# Altium schematic symbol library CPC1966.SchLib: 1 symbol
Pins are listed as number, name and electrical type; pins without a type are passive.

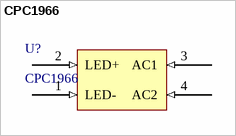
[diagram p0: symbol CPC1966]

## CPC1966
designator U?
SSR RELAY SPST-NO 3A 20-240V
pins: 1 LED- (in), 2 LED+ (in), 3 AC1 (in), 4 AC2 (in)